# EAGLE library part MPU-6500 (library pixhawk2)
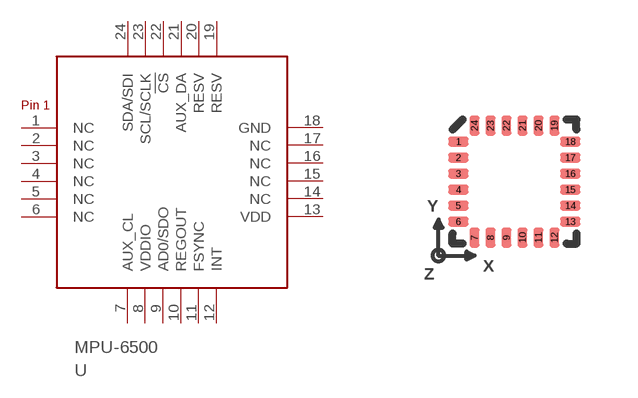
[diagram p98: symbol with the pads of MPU-6500; footprint MPU-6500]

Designator prefix -

## MPU-6500  [MPU-6500]
1  NC
2  NC
3  NC
4  NC
5  NC
6  NC
7  AUX_CL
8  VDDIO
9  AD0/SDO
10  REGOUT
11  FSYNC
12  INT
13  VDD
14  NC
15  NC
16  NC
17  NC
18  GND
19  RESV
20  RESV
21  AUX_DA
22  !CS
23  SCL/SCLK
24  SDA/SDI

## Footprint MPU-6500 (pad centres in mm)
smd 0.508 x 0.254: 1 -1.4,1; 2 -1.4,0.6; 3 -1.4,0.2; 4 -1.4,-0.2; 5 -1.4,-0.6; 6 -1.4,-1; 13 1.4,-1; 14 1.4,-0.6; 15 1.4,-0.2; 16 1.4,0.2; 17 1.4,0.6; 18 1.4,1
smd 0.254 x 0.508: 7 -1,-1.4; 8 -0.6,-1.4; 9 -0.2,-1.4; 10 0.2,-1.4; 11 0.6,-1.4; 12 1,-1.4; 19 1,1.4; 20 0.6,1.4; 21 0.2,1.4; 22 -0.2,1.4; 23 -0.6,1.4; 24 -1,1.4